# Altium schematic symbol library Rezonatot.SchLib: 2 symbols
Pins are listed as number, name and electrical type; pins without a type are passive.

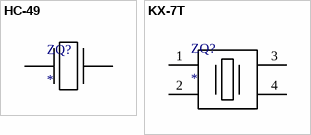
[diagram p0: symbols HC-49 to KX-7T]

## HC-49
designator ZQ?
Order: *
footprint HC-49S
pins: 1, 2

## KX-7T
designator ZQ?
Order: *
footprint PCBComponent_1
pins: 1, 2, 3, 4